# Altium footprint library Chip_kz85.PcbLib: 314 footprints (part 12 of 20)
Each footprint in its own frame and in the unit in brackets; x right, y up, seen from the top. Pads: shape width x height; smd on the part's side, far side on the other; paste and mask are expansions set on the pad; w line width, h text height; cw(c..) or ccw(c..) is an arc to the next point about the centre after c.
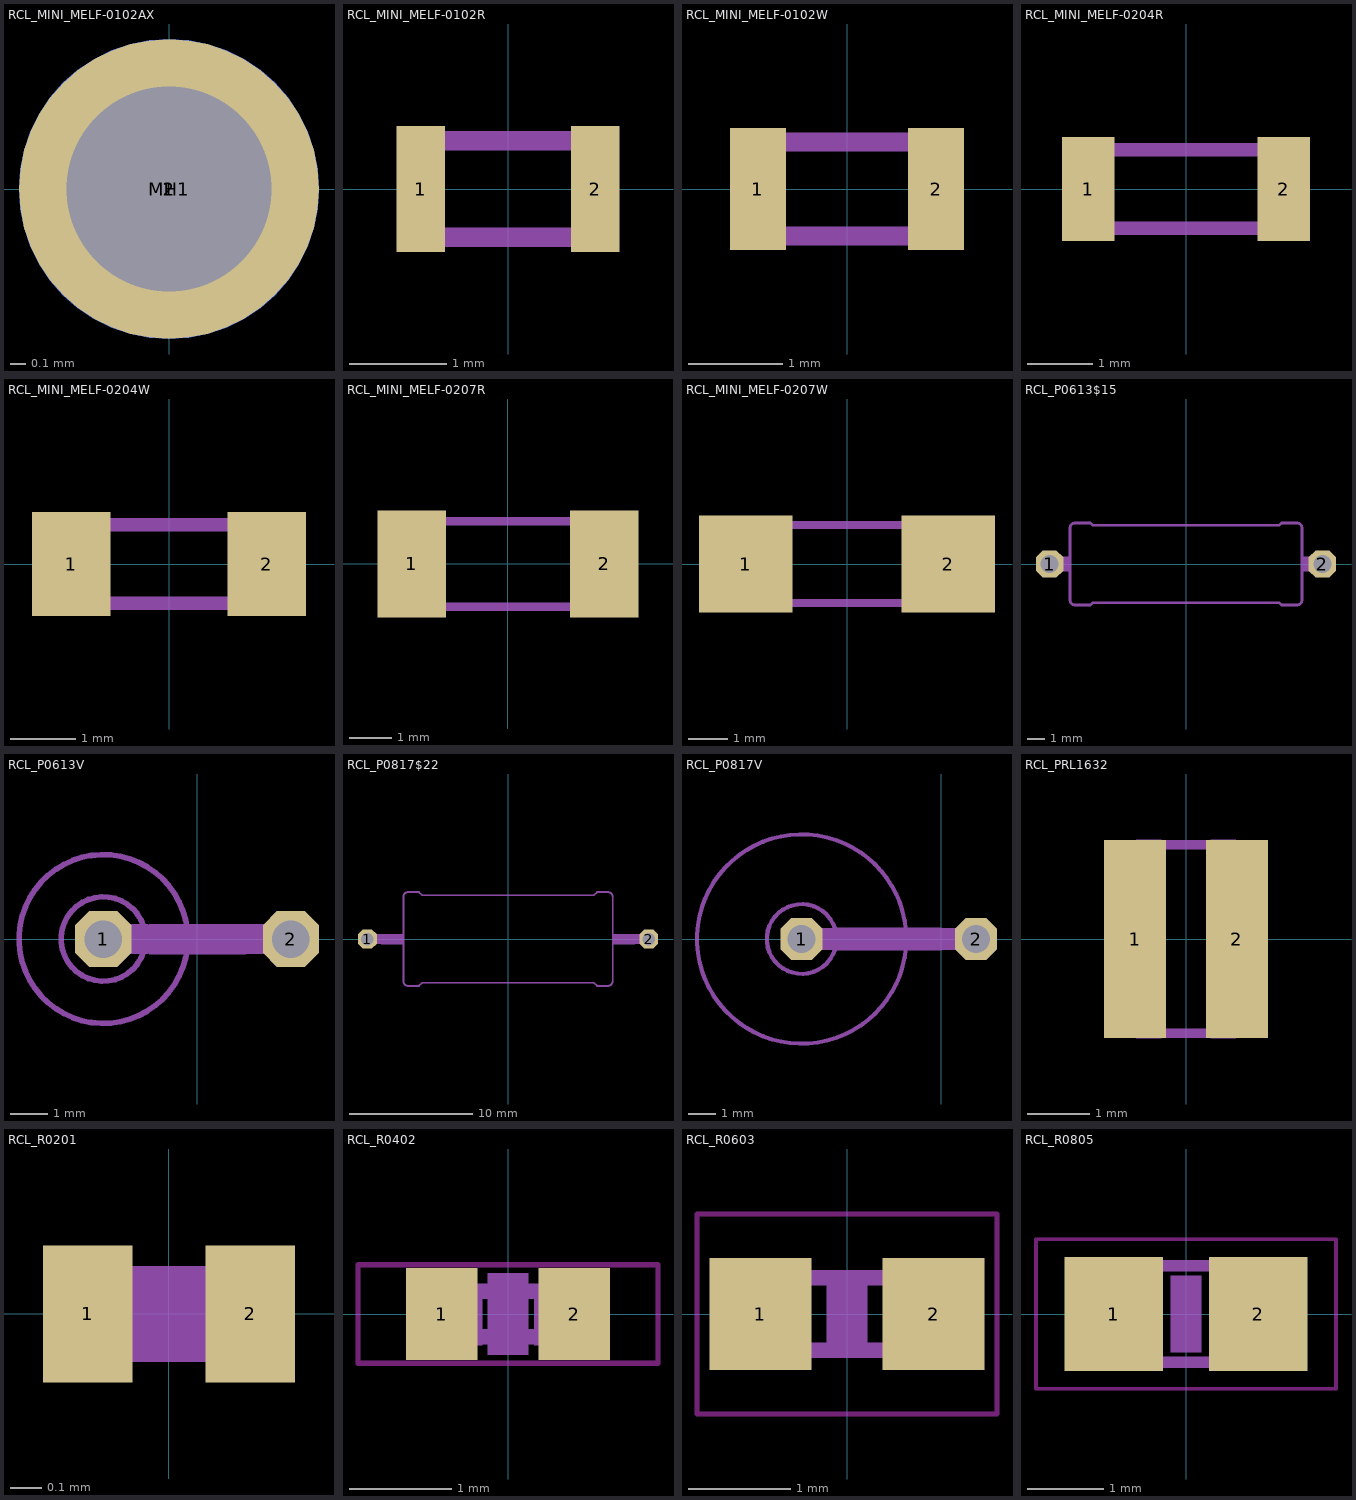
[diagram p11: the footprints below, top view; thin cyan lines are the x and y axes]

## RCL_MINI_MELF-0102AX [mil]
pads (3):
  rrect100% 74.8x74.8 smd: 1(0,0)
  rrect100% 74.8x74.8 smd far side: 2(0,0)
  round 51.18 hole 51.18 unplated: MH1(0,0)
Mechanical 3:
  circle w0: c0,0 r23.62
Mechanical 4:
  circle w0: c0,0 r23.62

## RCL_MINI_MELF-0102R [mil]
pads (2):
  rect 19.69x51.18 smd: 1(-35.43,0) 2(35.43,0)
Mechanical 3:
  lines w8: -39.37,-19.69 39.37,-19.69 39.37,19.69 -39.37,19.69 -39.37,-19.69

## RCL_MINI_MELF-0102W [mil]
pads (2):
  rect 23.62x51.18 smd: 1(-37.4,0) 2(37.4,0)
Mechanical 3:
  lines w8: -39.37,-19.69 39.37,-19.69 39.37,19.69 -39.37,19.69 -39.37,-19.69

## RCL_MINI_MELF-0204R [mil]
pads (2):
  rect 31.5x62.99 smd: 1(-59.06,0) 2(59.06,0)
Mechanical 3:
  lines w8: -66.93,-23.62 66.93,-23.62 66.93,23.62 -66.93,23.62 -66.93,-23.62
Mechanical 7:
  lines w8: -36.93,-23.62 36.93,-23.62 ; -36.93,23.62 36.93,23.62

## RCL_MINI_MELF-0204W [mil]
pads (2):
  rect 47.24x62.99 smd: 1(-59.06,0) 2(59.06,0)
Mechanical 3:
  lines w8: -66.93,-23.62 66.93,-23.62 66.93,23.62 -66.93,23.62 -66.93,-23.62
Mechanical 7:
  lines w8: -26.93,-23.62 26.93,-23.62 ; -26.93,23.62 26.93,23.62

## RCL_MINI_MELF-0207R [mil]
pads (2):
  rect 62.99x98.43 smd: 1(-88.58,0) 2(88.58,0)
Mechanical 3:
  lines w8: -110.24,-39.37 110.24,-39.37 110.24,39.37 -110.24,39.37 -110.24,-39.37
Mechanical 7:
  lines w8: -47.74,-39.37 47.74,-39.37 ; -47.74,39.37 47.74,39.37

## RCL_MINI_MELF-0207W [mil]
pads (2):
  rect 94.49x98.43 smd: 1(-102.36,0) 2(102.36,0)
Mechanical 3:
  lines w8: -110.24,-39.37 110.24,-39.37 110.24,39.37 -110.24,39.37 -110.24,-39.37
Mechanical 7:
  lines w8: -45.24,-39.37 45.24,-39.37 ; -45.24,39.37 45.24,39.37

## RCL_P0613$15 [mil]
pads (2):
  oct 60x60 / inner round 55.43 / far side oct 60x60 hole 40: 1(-300,0) 2(300,0)
Mechanical 3:
  region: -277,-16 -277,16 -255,16 -255,-16
  region: 255,-16 255,16 277,16 277,-16
  lines w6: -255,-25 -255,25 ; 255,-25 255,25
  lines w32: -300,0 -275,0 ; 275,0 300,0
Mechanical 7:
  lines w6: -255,-25 -255,-80 ccw(c-245,-80) -245,-90 -210,-90 -205,-85 205,-85 210,-90 245,-90 ccw(c245,-80) 255,-80 255,-25 ; -255,25 -255,80 cw(c-245,80) -245,90 -210,90 -205,85 205,85 210,90 245,90 cw(c245,80) 255,80 255,25

## RCL_P0613V [mil]
pads (2):
  oct 60x60 / inner round 55.43 / far side oct 60x60 hole 40: 1(-100,0) 2(100,0)
Mechanical 3:
  circle w6: c-100,0 r45
  lines w32: -100,0 -55,0 ; 55,0 100,0
Mechanical 7:
  circle w6: c-100,0 r90
  region: -51,-16 -51,16 52,16 52,-16

## RCL_P0817$22 [mil]
pads (2):
  oct 60x60 / inner round 55.43 / far side oct 60x60 hole 40: 1(-450,0) 2(450,0)
Mechanical 3:
  lines w32: -450,0 -410,0 ; 410,0 450,0
  text "0817" at 260,-89 h77.5
Mechanical 7:
  region: 335,-16 335,16 406,16 406,-16
  region: -406,-16 -406,16 -335,16 -335,-16
  lines w6: -335,-135 ccw(c-320,-135) -320,-150 -285,-150 -275,-140 275,-140 285,-150 320,-150 ccw(c320,-135) 335,-135 335,135 ccw(c320,135) 320,150 285,150 275,140 -275,140 -285,150 -320,150 ccw(c-320,135) -335,135 -335,-135

## RCL_P0817V [mil]
pads (2):
  oct 60x60 / inner round 55.43 / far side oct 60x60 hole 40: 1(-200,0) 2(50,0)
Mechanical 3:
  circle w6: c-200,0 r50
  lines w32: -200,0 -150,0 ; 0,0 50,0
Mechanical 7:
  circle w6: c-200,0 r150
  region: -150,-16 -150,16 0,16 0,-16
  text "0817" at -270,80 h62

## RCL_PRL1632 [mm]
pads (2):
  rect 1x3.2 smd: 1(-0.822,0) 2(0.822,0)
Mechanical 3:
  region: -0.8,-1.6 -0.8,1.6 -0.4,1.6 -0.4,-1.6
  region: 0.4,-1.6 0.4,1.6 0.8,1.6 0.8,-1.6
  lines w0.152: -0.728,-1.523 0.727,-1.523 ; -0.715,1.523 0.727,1.523

## RCL_R0201 [mm]
pads (2):
  rect 0.28x0.43 smd: 1(-0.255,0) 2(0.255,0)
Mechanical 3:
  region: -0.3,-0.15 -0.3,0.15 -0.15,0.15 -0.15,-0.15
  region: 0.15,-0.15 0.15,0.15 0.3,0.15 0.3,-0.15
Mechanical 7:
  region: -0.15,-0.15 -0.15,0.15 0.15,0.15 0.15,-0.15

## RCL_R0402 [mm]
pads (2):
  rect 0.7x0.9 smd: 1(-0.65,0) 2(0.65,0)
Top Layer keep-out:
  lines w0.051: -1.473,-0.483 1.473,-0.483 1.473,0.483 -1.473,0.483 -1.473,-0.483
Mechanical 3:
  region: -0.554,-0.305 -0.554,0.295 -0.254,0.295 -0.254,-0.305
  region: 0.259,-0.305 0.259,0.295 0.559,0.295 0.559,-0.305
  lines w0.152: -0.245,-0.224 0.245,-0.224 ; -0.245,0.224 0.245,0.224
Mechanical 11:
  region: -0.2,-0.4 -0.2,0.4 0.2,0.4 0.2,-0.4

## RCL_R0603 [mm]
pads (2):
  rect 1x1.1 smd: 1(-0.85,0) 2(0.85,0)
Top Layer keep-out:
  lines w0.051: -1.473,-0.983 1.473,-0.983 1.473,0.983 -1.473,0.983 -1.473,-0.983
Mechanical 3:
  region: 0.432,-0.432 0.432,0.432 0.838,0.432 0.838,-0.432
  region: -0.838,-0.432 -0.838,0.432 -0.432,0.432 -0.432,-0.432
  lines w0.152: -0.432,-0.356 0.432,-0.356 ; -0.432,0.356 0.432,0.356
Mechanical 11:
  region: -0.2,-0.4 -0.2,0.4 0.2,0.4 0.2,-0.4

## RCL_R0805 [mil]
pads (2):
  rect 51.18x59.06 smd: 1(-37.4,0) 2(37.4,0)
Top Layer keep-out:
  lines w2: -77.68,-38.7 77.68,-38.7 77.68,38.7 -77.68,38.7 -77.68,-38.7
Mechanical 3:
  region: 16,-27.5 16,27.62 41.59,27.62 41.59,-27.5
  region: -42,-27.5 -42,27.62 -16.41,27.62 -16.41,-27.5
  lines w6: -16.14,-25 16.14,-25 ; -16.14,25 16.14,25
Mechanical 11:
  region: -7.87,-19.69 -7.87,19.69 7.87,19.69 7.87,-19.69